# EAGLE library part 750342089 (library Wurth Electronics Midcom Inc - EAGLE Lib V2-1)
Package Style: EER34 Mounting: THT Pins: 13 pins Bobbin: 070-6160 Best pinouts for production vary per application. Please contact Wurth Electronics Midcom, Inc. for assistance with your custom design. Website: Wurth Electronics Midcom <http://www.we-online.com/midcom> Contact us Wurth Electronics Midcom, Inc. 121 Airport Dr. Watertown, SD 57201 Phone: (605) 886-4385 Fax: (605) 886-4486 E-Mail: midcom@we-online.com
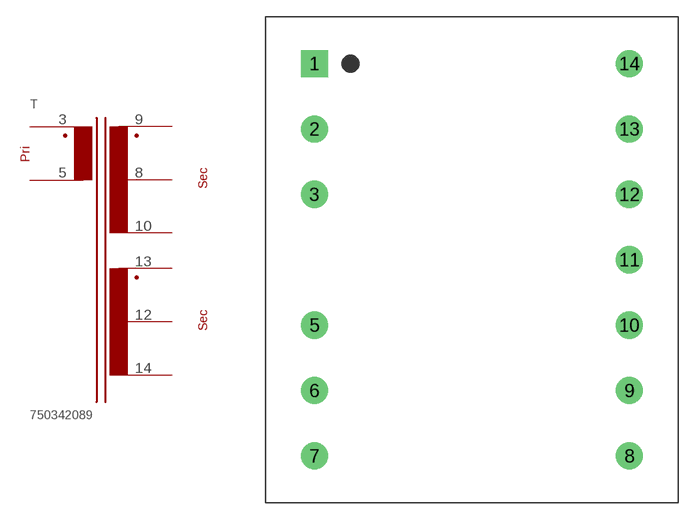
[diagram p100: symbol with the pads of EER34_THT_H_13PIN_(6160); footprint EER34_THT_H_13PIN_(6160)]

Designator prefix T

## 750342089  [EER34_THT_H_13PIN_(6160)]
3  3  pas
5  5  pas
8  8  pas
9  9  pas
10  10  pas
12  12  pas
13  13  pas
14  14  pas

## Footprint EER34_THT_H_13PIN_(6160) (pad centres in mm)
Package Style: EER34 Mounting: THT Pins: 14 Bobbin: 070-6160
drill 1.6 square: 1 -13.945,17.374
drill 1.6: 2 -13.945,11.582; 3 -13.945,5.791; 5 -13.945,-5.791; 6 -13.945,-11.582; 7 -13.945,-17.374; 8 13.945,-17.374; 9 13.945,-11.582; 10 13.945,-5.791; 11 13.945,0; 12 13.945,5.791; 13 13.945,11.582; 14 13.945,17.374